# Altium footprint library SunflowerPCB.PcbLib: 18 footprints (part 2 of 2)
Each footprint in its own frame and in the unit in brackets; x right, y up, seen from the top. Pads: shape width x height; smd on the part's side, far side on the other; paste and mask are expansions set on the pad; w line width, h text height; cw(c..) or ccw(c..) is an arc to the next point about the centre after c.
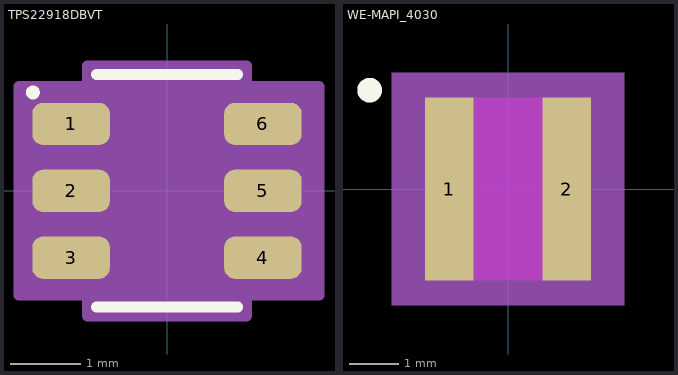
[diagram p1: the footprints below, top view; thin cyan lines are the x and y axes]

## TPS22918DBVT [mm]
pads (6):
  rrect50% 1.1x0.6 smd paste+0 mask+0: 1(-1.362,0.95) 2(-1.362,0) 3(-1.362,-0.95) 4(1.362,-0.95) 5(1.362,0) 6(1.362,0.95)
Top Overlay:
  circle w0.1: c-1.905,1.397 r0.05
  lines w0.152: -1.003,-1.651 1.003,-1.651 ; -1.003,1.651 1.003,1.651
  text ".Designator" at -2.667,-2.921 h0.5
Top 3D Body:
  lines w0: -0.305,1.524 ccw(c0,1.524) 0.305,1.524
  lines w0.025: -1.499,-1.204 -1.499,-0.696 -0.876,-0.696 -0.876,-1.204 -1.499,-1.204 ; -1.499,-0.254 -1.499,0.254 -0.876,0.254 -0.876,-0.254 -1.499,-0.254 ; -1.499,0.696 -1.499,1.204 -0.876,1.204 -0.876,0.696 -1.499,0.696 ; -0.876,-1.524 0.876,-1.524 0.876,1.524 -0.876,1.524 -0.876,-1.524 ; 0.876,-1.204 0.876,-0.696 1.499,-0.696 1.499,-1.204 0.876,-1.204 ; 0.876,-0.254 0.876,0.254 1.499,0.254 1.499,-0.254 0.876,-0.254 ; 0.876,0.696 0.876,1.204 1.499,1.204 1.499,0.696 0.876,0.696
  text "*" at -0.813,0.178 h1.27
Top Courtyard (Mech15):
  region: -1.13,-1.483 -2.103,-1.483 -2.103,1.483 -1.13,1.483 -1.13,1.778 1.13,1.778 1.13,1.483 2.103,1.483 2.103,-1.483 1.13,-1.483 1.13,-1.778 -1.13,-1.778
  lines w0.152: -2.103,-1.483 -2.103,1.483 -1.13,1.483 -1.13,1.778 1.13,1.778 1.13,1.483 2.159,1.483 2.159,-1.483 1.13,-1.483 1.13,-1.778 -1.13,-1.778 -1.13,-1.483 -2.103,-1.483
3D body "DBV6_TEX.step": height 1.45, standoff 0, extent -1.499,-1.524 1.499,1.524

## WE-MAPI_4030 [mm]
pads (2):
  rect 0.98x3.7 smd paste+0 mask+0.102: 1(-1.185,0) 2(1.185,0)
Top Overlay:
  circle w0.3: c-2.8,2 r0.1
Keep-Out Layer:
  region: 0.695,-1.85 -0.695,-1.85 -0.695,1.85 0.695,1.85
Top 3D Body:
  lines w0.1: -2.05,-2.05 2.05,-2.05 2.05,2.05 -2.05,2.05 -2.05,-2.05
  lines w0.2: -2.15,-2.15 2.15,-2.15 2.15,2.15 -2.15,2.15 -2.15,-2.15
Top Courtyard (Mech15):
  region: 2.35,-2.35 -2.35,-2.35 -2.35,2.35 2.35,2.35
3D body "step_temp.STEP": height 3.1, standoff 0, extent -2.05,-2.05 2.05,2.05